# Altium footprint library IC.PcbLib: 23 footprints (part 1 of 2)
Each footprint in its own frame and in the unit in brackets; x right, y up, seen from the top. Pads: shape width x height; smd on the part's side, far side on the other; paste and mask are expansions set on the pad; w line width, h text height; cw(c..) or ccw(c..) is an arc to the next point about the centre after c.
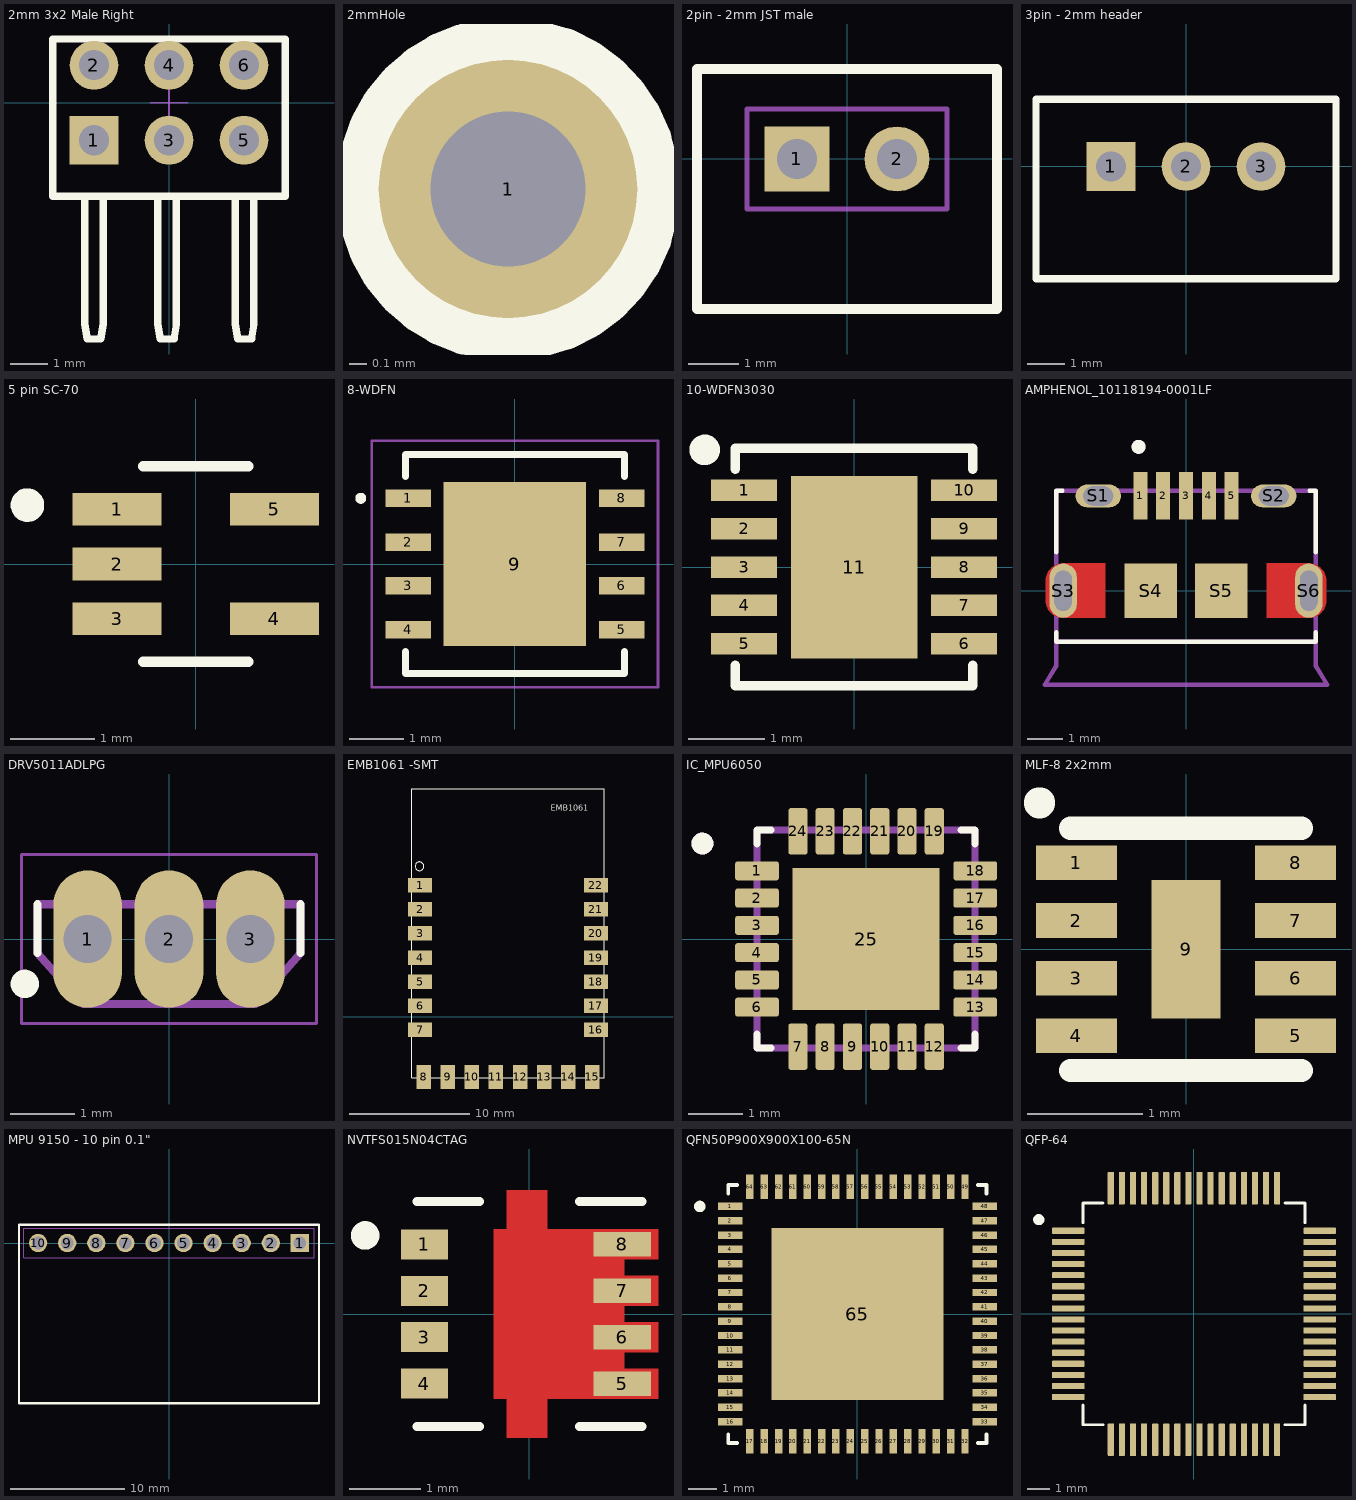
[diagram p0: the footprints below, top view; thin cyan lines are the x and y axes]

## 2mm 3x2 Male Right [mm] "Socket Header, Pitch 2.00 mm, THT, Vertical, dual row, 6p"
height 4.45
pads (6):
  rect 1.3x1.3 hole 0.8: 1(-2,-1)
  round 1.3 hole 0.8: 2(-2,1) 3(0,-1) 4(0,1) 5(2,-1) 6(2,1)
Top Overlay:
  lines w0.2: -2.25,-2.502 -2.25,-5.902 -2.183,-6.3 -1.816,-6.3 -1.75,-5.902 -1.75,-2.502 ; -0.3,-2.5 -0.3,-5.9 -0.233,-6.3 0.133,-6.3 0.2,-5.9 0.2,-2.5 ; 1.766,-2.507 1.766,-5.907 1.831,-6.3 2.2,-6.3 2.266,-5.907 2.266,-2.507 ; -3.1,-2.5 -3.1,1.7 3.1,1.7 3.1,-2.5 -3.1,-2.5
Mechanical 15:
  lines w0.05: -0.5,0 0.5,0 ; 0,-0.5 0,0.5
3D body "877600616.STEP": height 4.33, standoff -2.58, extent -3,-6.4 3,1.6

## 2mmHole [mm]
pads (1):
  round 1.5 hole 0.9: 1(0,0)
Top Overlay:
  circle w0.254: c0,0 r0.87
Bottom Overlay:
  circle w0.254: c0,0 r0.87

## 2pin - 2mm JST male [mm]
height 6.35
pads (2):
  rect 1.3x1.3 hole 0.8: 1(-1,0)
  round 1.3 hole 0.8: 2(1,0)
Top Overlay:
  lines w0.2: -3,-3 -3,1.8 3,1.8 3,-3 -3,-3
Mechanical 13:
  lines w0.1: -2,-1 -2,1 2,1 2,-1 -2,-1
3D body "JST - PH - Thru (V) - 2Pin - 2.00mm.STEP": height 5.89, standoff -3.05, extent -2.93,-2.974 2.93,1.7

## 3pin - 2mm header [mm]
height 6.35
pads (3):
  rect 1.3x1.3 hole 0.8: 1(-2,0)
  round 1.3 hole 0.8: 2(0,0) 3(2,0)
Top Overlay:
  lines w0.2: -4,-3 4,-3 4,1.8 -4,1.8 -4,-3
Mechanical 15:
  lines w0.05: -0.5,0 0.5,0 ; 0,-0.5 0,0.5
3D body "2mm.STEP": height 5.89, standoff -3.05, extent -3.93,-2.974 3.93,1.7

## 5 pin SC-70 [mm]
pads (5):
  rect 1.06x0.39 smd: 1(-0.935,0.65) 2(-0.935,0) 3(-0.935,-0.65) 4(0.935,-0.65) 5(0.935,0.65)
Top Overlay:
  circle w0.2: c-2,0.7 r0.1
  lines w0.127: -0.625,-1.16 0.625,-1.16 ; -0.625,1.16 0.625,1.16
3D body "SC-70.STEP": height 0.97, standoff -0.03, extent -1.05,-1 1.05,1

## 8-WDFN [mm]
pads (9):
  rect 0.83x0.32 smd: 1(-1.95,1.2) 2(-1.95,0.4) 3(-1.95,-0.4) 4(-1.95,-1.2) 5(1.95,-1.2) 6(1.95,-0.4) 7(1.95,0.4) 8(1.95,1.2)
  rect 2.6x3 smd: 9(0,0)
Top Overlay:
  circle w0.1: c-2.814,1.2 r0.05
  lines w0.127: -2,-1.6 -2,-2 2,-2 2,-1.6 ; -2,1.6 -2,2 2,2 2,1.6
Top Paste:
  region: -0.821,0.95 0.82,0.95 0.82,-0.951 -0.821,-0.951
Mechanical 16:
  lines w0.05: -2.615,-2.25 -2.615,2.25 2.615,2.25 2.615,-2.25 -2.615,-2.25
3D body: height 0.8, standoff 0, extent -2,-2 2,2

## 10-WDFN3030 [mm]
pads (11):
  rect 0.86x0.28 smd: 1(-1.435,1) 2(-1.435,0.5) 3(-1.435,0) 4(-1.435,-0.5) 5(-1.435,-1) 6(1.435,-1) 7(1.435,-0.5) 8(1.435,0) 9(1.435,0.5) 10(1.435,1)
  rect 1.65x2.38 smd: 11(0,0)
Top Overlay:
  circle w0.2: c-1.95,1.53 r0.1
  lines w0.127: -1.55,-1.28 -1.55,-1.55 1.55,-1.55 1.55,-1.28 ; -1.55,1.28 -1.55,1.55 1.55,1.55 1.55,1.28
Top Paste:
  region: -0.52,0.75 0.52,0.75 0.52,-0.75 -0.52,-0.75
3D body: height 0.8, standoff 0, extent -1.54,-1.55 1.55,1.56

## AMPHENOL_10118194-0001LF [mm]
pads (11):
  rect 0.4x1.35 smd: 1(-1.3,2.7) 2(-0.65,2.7) 3(0,2.7) 4(0.65,2.7) 5(1.3,2.7)
  oval 1.3x0.65 hole 0.55 slot 0.85 at 0 deg: S1(-2.5,2.7) S2(2.5,2.7)
  oval 0.775x1.55 hole 0.5 slot 1.15 at 90 deg: S3(-3.5,0) S6(3.5,0)
  rect 1.5x1.55 smd: S4(-1,0) S5(1,0)
Top Layer:
  region: 192 vertices and 0 holes, not listed, extent -4,-0.775 -2.3,0.78
  region: 192 vertices and 0 holes, not listed, extent 2.3,-0.78 4,0.775
Top Overlay:
  circle w0.2: c-1.35,4.1 r0.1
  lines w0.127: -3.7,-1.18 -3.7,-1.45 3.7,-1.45 3.7,-1.18 ; -3.7,1.095 -3.7,2.85 -3.52,2.85 ; 3.52,2.85 3.7,2.85 3.7,1.095
Top Paste:
  drawing of 6 lines, arcs and shapes, not listed
Top Solder:
  region: -2.2,-0.875 -3.6,-0.875 -3.626,-0.874 -3.652,-0.872 -3.678,-0.869 -3.704,-0.864 -3.729,-0.858 -3.755,-0.851 -3.779,-0.842 -3.803,-0.832 -3.827,-0.821 -3.85,-0.808 -3.872,-0.794 -3.894,-0.78 -3.915,-0.764 -3.935,-0.747 -3.954,-0.729 -3.972,-0.71 -3.989,-0.69 -4.005,-0.669 -4.019,-0.647 -4.033,-0.625 -4.046,-0.602 -4.057,-0.578 -4.067,-0.554 -4.076,-0.53 -4.083,-0.504 -4.089,-0.479 -4.094,-0.453 -4.097,-0.427 -4.099,-0.401 -4.1,-0.375 -4.1,0.375 -4.099,0.401 -4.097,0.427 -4.094,0.453 -4.089,0.479 -4.083,0.504 -4.076,0.53 -4.067,0.554 -4.057,0.578 -4.046,0.602 -4.033,0.625 -4.019,0.647 -4.005,0.669 -3.989,0.69 -3.972,0.71 -3.954,0.729 -3.935,0.747 -3.915,0.764 -3.894,0.78 -3.872,0.794 -3.85,0.808 -3.827,0.821 -3.803,0.832 -3.779,0.842 -3.755,0.851 -3.729,0.858 -3.704,0.864 -3.678,0.869 -3.652,0.872 -3.626,0.874 -3.6,0.875 -2.2,0.875
  region: 3.626,0.874 3.652,0.872 3.678,0.869 3.704,0.864 3.729,0.858 3.755,0.851 3.779,0.842 3.803,0.832 3.827,0.821 3.85,0.808 3.872,0.794 3.894,0.78 3.915,0.764 3.935,0.747 3.954,0.729 3.972,0.71 3.989,0.69 4.005,0.669 4.019,0.647 4.033,0.625 4.046,0.602 4.057,0.578 4.067,0.554 4.076,0.53 4.083,0.504 4.089,0.479 4.094,0.453 4.097,0.427 4.099,0.401 4.1,0.375 4.1,-0.375 4.099,-0.401 4.097,-0.427 4.094,-0.453 4.089,-0.479 4.083,-0.504 4.076,-0.53 4.067,-0.554 4.057,-0.578 4.046,-0.602 4.033,-0.625 4.019,-0.647 4.005,-0.669 3.989,-0.69 3.972,-0.71 3.954,-0.729 3.935,-0.747 3.915,-0.764 3.894,-0.78 3.872,-0.794 3.85,-0.808 3.827,-0.821 3.803,-0.832 3.779,-0.842 3.755,-0.851 3.729,-0.858 3.704,-0.864 3.678,-0.869 3.652,-0.872 3.626,-0.874 3.6,-0.875 2.2,-0.875 2.2,0.875 3.6,0.875
Mechanical 13:
  circle w0.2: c-1.35,4.1 r0.1
  lines w0.127: -3.7,-1.45 3.7,-1.45 ; -3.7,-1.45 -3.7,2.85 3.7,2.85 3.7,-1.45 ; -3.7,-1.45 -3.7,-2.15 -4.025,-2.68 4.025,-2.68 3.7,-2.15 3.7,-1.45
3D body "Micro USB-B Female 5Pin SMD.STEP": height 2.7, standoff -1.02, extent -4.025,-2.7 4.025,3.1

## DRV5011ADLPG [mm]
pads (3):
  oval 1.07x2.14 hole 0.75: 1(-1.27,0) 2(0,0) 3(1.27,0)
Top Overlay:
  circle w0.3: c-2.25,-0.7 r0.071
  lines w0.127: -2.05,-0.22 -2.05,0.543 ; 2.05,-0.22 2.05,0.543
Mechanical 4:
  lines w0.127: -2.05,-0.22 -2.05,0.543 ; -2.05,-0.22 -1.34,-1.015 ; -2.05,-0.22 -2.05,0.543 ; -2.05,-0.22 -1.34,-1.015 ; -2.05,0.543 2.05,0.543 ; -2.05,0.543 2.05,0.543 ; -1.34,-1.015 1.34,-1.015 -1.34,-1.015 ; 2.05,-0.22 2.05,0.543 ; 2.05,-0.22 1.35,-1.015 2.05,-0.22 ; 2.05,-0.22 2.05,0.543
Mechanical 16:
  lines w0.05: -2.3,-1.32 2.3,-1.32 2.3,1.32 -2.3,1.32 -2.3,-1.32
3D body "to-92s-3.STEP": height 11, standoff -1.1, extent -2,-0.977 2,0.543

## EMB1061 -SMT [mm]
pads (22):
  rrect0% 2x1.2 smd: 1(11.749,10.92) 2(11.749,8.92) 3(11.749,6.92) 4(11.749,4.92) 5(11.749,2.92) 6(11.749,0.92) 7(11.749,-1.08) 16(26.349,-1.08) 17(26.349,0.92) 18(26.349,2.92) 19(26.349,4.92) 20(26.349,6.92) 21(26.349,8.92) 22(26.349,10.92)
  rect 1.2x2 smd: 8(12.049,-5) 9(14.049,-5) 10(16.049,-5) 11(18.049,-5) 12(20.049,-5) 13(22.049,-5) 14(24.049,-5) 15(26.049,-5)
Top Overlay:
  circle w0.1: c11.7,12.5 r0.361
  lines w0.1: 27.049,10.92 27.049,-5.08 ; 27.049,-5.08 27.049,18.92 11.049,18.92 11.049,-5.08 27.049,-5.08
  text "EMB1061" at 22.6,17.1 h0.5
3D body: height 1, standoff 0, extent 11.051,-5.09 27.05,18.89

## IC_MPU6050 [mm]
pads (25):
  rrect25% 0.8x0.35 smd: 1(-2,1.25) 2(-2,0.75) 3(-2,0.25) 4(-2,-0.25) 5(-2,-0.75) 6(-2,-1.25) 13(2,-1.25) 14(2,-0.75) 15(2,-0.25) 16(2,0.25) 17(2,0.75) 18(2,1.25)
  rrect25% 0.35x0.85 smd: 7(-1.25,-1.975) 8(-0.75,-1.975) 9(-0.25,-1.975) 10(0.25,-1.975) 11(0.75,-1.975) 12(1.25,-1.975) 19(1.25,1.975) 20(0.75,1.975) 21(0.25,1.975) 22(-0.25,1.975) 23(-0.75,1.975) 24(-1.25,1.975)
  rect 2.7x2.6 smd paste-2: 25(0,0)
Top Overlay:
  circle w0.2: c-3,1.75 r0.1
  lines w0.127: -2,-1.739 -2,-2 -1.739,-2 ; -2,1.739 -2,2 -1.739,2 ; 1.739,-2 2,-2 2,-1.739 ; 1.739,2 2,2 2,1.739
Top Paste:
  region: 0.854,-0.822 -0.854,-0.822 -0.854,0.822 0.854,0.822
Mechanical 13:
  circle w0.2: c-3,1.75 r0.1
  lines w0.127: -2,-2 2,-2 2,2 -2,2 -2,-2
3D body "MPU6050.STEP": height 0.93, standoff -0.02, extent -2,-2 2,2

## MLF-8 2x2mm [mm]
pads (9):
  rect 0.7x0.3 smd: 1(-0.95,0.75) 2(-0.95,0.25) 3(-0.95,-0.25) 4(-0.95,-0.75) 5(0.95,-0.75) 6(0.95,-0.25) 7(0.95,0.25) 8(0.95,0.75)
  rect 0.6x1.2 smd: 9(0,0)
Top Overlay:
  circle w0.25: c-1.27,1.27 r0.01
  lines w0.2: -1,-1.05 1,-1.05 ; -1,1.05 1,1.05
3D body: height 0.85, standoff 0, extent -1,-1 1,1

## MPU 9150 - 10 pin 0.1" [mm] "Pin Header, pitch 2.54 mm, THT, Vertical, single row, 10p"
height 8.54
pads (10):
  rect 1.6x1.6 hole 1.1: 1(11.43,0)
  round 1.6 hole 1.1: 2(8.89,0) 3(6.35,0) 4(3.81,0) 5(1.27,0) 6(-1.27,0) 7(-3.81,0) 8(-6.35,0) 9(-8.89,0) 10(-11.43,0)
Top Overlay:
  lines w0.2: -13.1,-14 -13.1,1.6 13.1,1.6 13.1,-14 -13.1,-14
Mechanical 13:
  lines w0.1: -12.7,-1.27 12.7,-1.27 12.7,1.27 -12.7,1.27 -12.7,-1.27
3D body "MPU-9255.STEP": height 3.4, standoff 0.2, extent -13,-14 13,1.5

## NVTFS015N04CTAG [mm]
pads (8):
  rect 0.66x0.42 smd: 1(-1.47,0.975) 2(-1.47,0.325) 3(-1.47,-0.325) 4(-1.47,-0.975)
  rect 0.8x0.34 smd: 5(1.3,-0.975) 6(1.3,-0.325) 7(1.3,0.325) 8(1.3,0.975)
Top Layer:
  region: -0.5,-1.185 -0.5,1.185 -0.32,1.185 -0.32,1.73 0.25,1.73 0.25,1.185 1.8,1.185 1.8,0.765 1.33,0.765 1.33,0.535 1.8,0.535 1.8,0.115 1.33,0.115 1.33,-0.115 1.8,-0.115 1.8,-0.535 1.33,-0.535 1.33,-0.765 1.8,-0.765 1.8,-1.185 0.25,-1.185 0.25,-1.73 -0.32,-1.73 -0.32,-1.185
Top Overlay:
  circle w0.2: c-2.3,1.1 r0.1
  lines w0.127: -1.575,-1.575 -0.7,-1.575 ; -1.575,1.575 -0.7,1.575 ; 0.7,-1.575 1.575,-1.575 ; 0.7,1.575 1.575,1.575
3D body: height 1.1, standoff 0.01, extent -1.7,-1.7 1.7,1.7

## QFN50P900X900X100-65N [mm]
pads (65):
  rect 0.86x0.26 smd: 1(-4.435,3.75) 2(-4.435,3.25) 3(-4.435,2.75) 4(-4.435,2.25) 5(-4.435,1.75) 6(-4.435,1.25) 7(-4.435,0.75) 8(-4.435,0.25) 9(-4.435,-0.25) 10(-4.435,-0.75) 11(-4.435,-1.25) 12(-4.435,-1.75) 13(-4.435,-2.25) 14(-4.435,-2.75) 15(-4.435,-3.25) 16(-4.435,-3.75) 33(4.435,-3.75) 34(4.435,-3.25) 35(4.435,-2.75) 36(4.435,-2.25) 37(4.435,-1.75) 38(4.435,-1.25) 39(4.435,-0.75) 40(4.435,-0.25) 41(4.435,0.25) 42(4.435,0.75) 43(4.435,1.25) 44(4.435,1.75) 45(4.435,2.25) 46(4.435,2.75) 47(4.435,3.25) 48(4.435,3.75)
  rect 0.26x0.86 smd: 17(-3.75,-4.435) 18(-3.25,-4.435) 19(-2.75,-4.435) 20(-2.25,-4.435) 21(-1.75,-4.435) 22(-1.25,-4.435) 23(-0.75,-4.435) 24(-0.25,-4.435) 25(0.25,-4.435) 26(0.75,-4.435) 27(1.25,-4.435) 28(1.75,-4.435) 29(2.25,-4.435) 30(2.75,-4.435) 31(3.25,-4.435) 32(3.75,-4.435) 49(3.75,4.435) 50(3.25,4.435) 51(2.75,4.435) 52(2.25,4.435) 53(1.75,4.435) 54(1.25,4.435) 55(0.75,4.435) 56(0.25,4.435) 57(-0.25,4.435) 58(-0.75,4.435) 59(-1.25,4.435) 60(-1.75,4.435) 61(-2.25,4.435) 62(-2.75,4.435) 63(-3.25,4.435) 64(-3.75,4.435)
  rect 6x6 smd: 65(0,0)
Top Overlay:
  circle w0.2: c-5.495,3.75 r0.1
  circle w0.2: c-5.495,3.75 r0.1
  lines w0.127: -4.5,-4.2 -4.5,-4.5 -4.2,-4.5 ; -4.5,4.2 -4.5,4.5 -4.2,4.5 ; 4.2,-4.5 4.5,-4.5 4.5,-4.2 ; 4.2,4.5 4.5,4.5 4.5,4.2
Top Paste:
  region: 0.55,-0.55 2.45,-0.55 2.45,-2.45 0.55,-2.45
  region: -2.45,-0.55 -0.55,-0.55 -0.55,-2.45 -2.45,-2.45
  region: -2.45,2.45 -0.55,2.45 -0.55,0.55 -2.45,0.55
  region: 0.55,2.45 2.45,2.45 2.45,0.55 0.55,0.55
3D body "User Library-QFN64-2.step": height 0.9, standoff 0, extent -4.52,-4.52 4.52,4.52

## QFP-64 [mm]
pads (64):
  rrect30% 1.47x0.28 smd: 1(-5.67,3.75) 2(-5.67,3.25) 3(-5.67,2.75) 4(-5.67,2.25) 5(-5.67,1.75) 6(-5.67,1.25) 7(-5.67,0.75) 8(-5.67,0.25) 9(-5.67,-0.25) 10(-5.67,-0.75) 11(-5.67,-1.25) 12(-5.67,-1.75) 13(-5.67,-2.25) 14(-5.67,-2.75) 15(-5.67,-3.25) 16(-5.67,-3.75) 33(5.67,-3.75) 34(5.67,-3.25) 35(5.67,-2.75) 36(5.67,-2.25) 37(5.67,-1.75) 38(5.67,-1.25) 39(5.67,-0.75) 40(5.67,-0.25) 41(5.67,0.25) 42(5.67,0.75) 43(5.67,1.25) 44(5.67,1.75) 45(5.67,2.25) 46(5.67,2.75) 47(5.67,3.25) 48(5.67,3.75)
  rrect30% 0.28x1.47 smd: 17(-3.75,-5.67) 18(-3.25,-5.67) 19(-2.75,-5.67) 20(-2.25,-5.67) 21(-1.75,-5.67) 22(-1.25,-5.67) 23(-0.75,-5.67) 24(-0.25,-5.67) 25(0.25,-5.67) 26(0.75,-5.677) 27(1.25,-5.67) 28(1.75,-5.67) 29(2.25,-5.67) 30(2.75,-5.67) 31(3.25,-5.67) 32(3.75,-5.67) 49(3.75,5.67) 50(3.25,5.67) 51(2.75,5.67) 52(2.25,5.67) 53(1.75,5.67) 54(1.25,5.67) 55(0.75,5.67) 56(0.25,5.67) 57(-0.25,5.67) 58(-0.75,5.67) 59(-1.25,5.67) 60(-1.75,5.67) 61(-2.25,5.67) 62(-2.75,5.67) 63(-3.25,5.67) 64(-3.75,5.67)
Top Overlay:
  circle w0.25: c-7,4.25 r0.125
  lines w0.127: -5,-4.11 -5,-5 -4.11,-5 ; -5,4.11 -5,5 -4.11,5 ; 4.11,-5 5,-5 5,-4.11 ; 4.11,5 5,5 5,4.11
3D body "tqfp50p-10mmx10mm-64 v0.step": height 1, standoff 0, extent -5.95,-6 6.05,6